# EAGLE library part 662014235922 (library Wuerth_Elektronik_eiCan_08_Micro_Power_Connectors)
WR-MPC3 3.00mm Male Dual Row SMT Vertical Header with Through Hole Retention Clip, 14 Pins
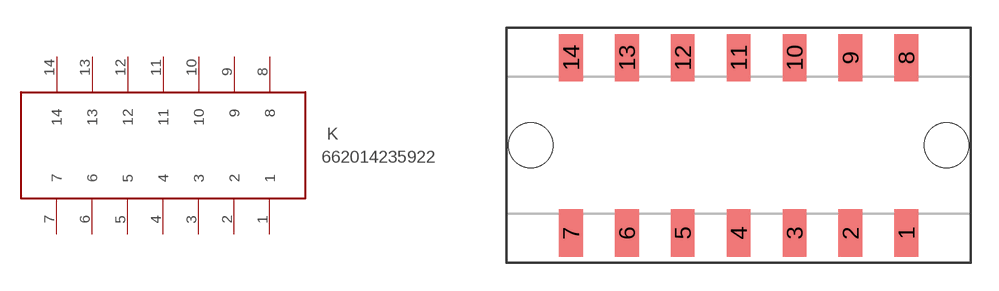
[diagram p14: symbol with the pads of 662014235922; footprint 662014235922]

Designator prefix K

## 662014235922  [662014235922]
1  1
2  2
3  3
4  4
5  5
6  6
7  7
8  8
9  9
10  10
11  11
12  12
13  13
14  14

## Footprint 662014235922 (pad centres in mm)
WR-MPC3 3.00mm Male Dual Row SMT Vertical Header with Through Hole Retention Clip, 14 Pins
smd 1.27 x 2.54: 1 0,-4.7; 2 -3,-4.7; 3 -6,-4.7; 4 -9,-4.7; 5 -12,-4.7; 6 -15,-4.7; 7 -18,-4.7; 8 0,4.7; 9 -3,4.7; 10 -6,4.7; 11 -9,4.7; 12 -12,4.7; 13 -15,4.7; 14 -18,4.7
hole 2.41 at 2.16,0
hole 2.41 at -20.16,0